# Altium integrated library ScrewConn_V2.IntLib: 1 symbol
Pins are listed as number, name and electrical type; pins without a type are passive.

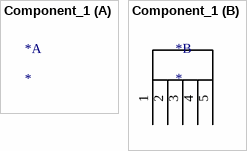
[diagram p0: symbol Component_1]

## Component_1
designator *
footprint PCBComponent_1
part B pins: 1, 2, 3, 4, 5